# EAGLE library part PCA8575PW,112 (library TSOC-ESP8266-BASE)
Remote 16-bit I/O expander for I2C-bus with interrupt
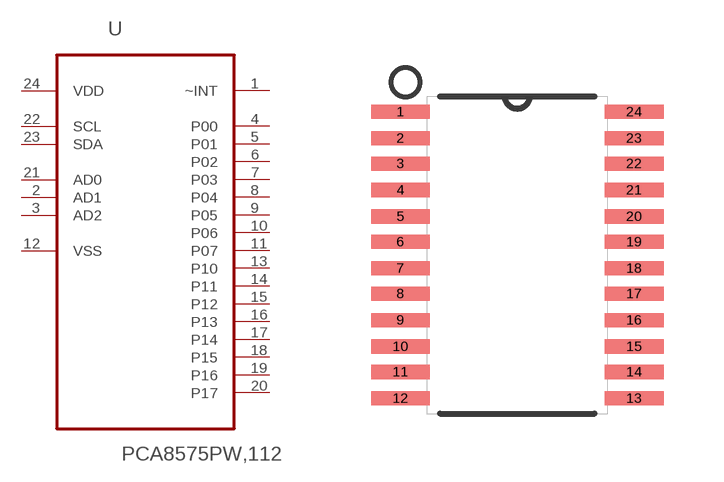
[diagram p5: symbol with the pads of SOP65P640X110-24N; footprint SOP65P640X110-24N]

Designator prefix U

## PCA8575PW,112 (MPN: PCA8575PW,112; OC_FARNELL: -; OC_NEWARK: 70R6423; PACKAGE: TSSOP-24; SUPPLIER: NXP)  [SOP65P640X110-24N]
1  ~INT  out
2  AD1  in
3  AD2  in
4  P00
5  P01
6  P02
7  P03
8  P04
9  P05
10  P06
11  P07
12  VSS  pas
13  P10
14  P11
15  P12
16  P13
17  P14
18  P15
19  P16
20  P17
21  AD0  in
22  SCL  in
23  SDA
24  VDD  pwr

## Footprint SOP65P640X110-24N (pad centres in mm)
smd 1.473 x 0.356: 1 -2.921,3.581; 2 -2.921,2.921; 3 -2.921,2.286; 4 -2.921,1.626; 5 -2.921,0.965; 6 -2.921,0.33; 7 -2.921,-0.33; 8 -2.921,-0.965; 9 -2.921,-1.626; 10 -2.921,-2.286; 11 -2.921,-2.921; 12 -2.921,-3.581; 13 2.921,-3.581; 14 2.921,-2.921; 15 2.921,-2.286; 16 2.921,-1.626; 17 2.921,-0.965; 18 2.921,-0.33; 19 2.921,0.33; 20 2.921,0.965; 21 2.921,1.626; 22 2.921,2.286; 23 2.921,2.921; 24 2.921,3.581